# Altium integrated library ADXL345.IntLib: 3 symbols
Pins are listed as number, name and electrical type; pins without a type are passive.

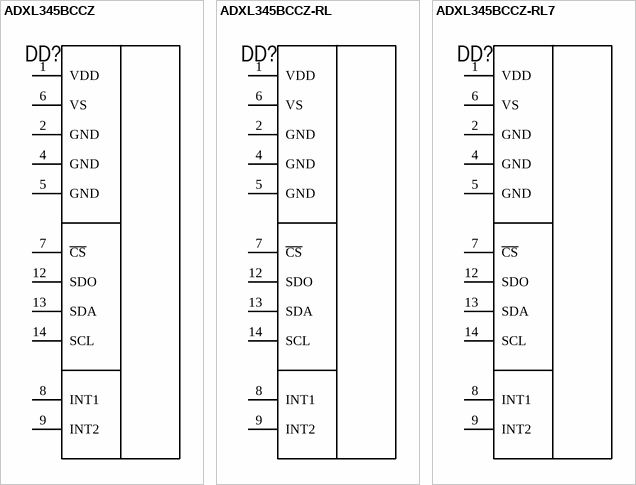
[diagram p0: symbols ADXL345BCCZ to ADXL345BCCZ-RL7]

## ADXL345BCCZ
designator DD?  (value not drawn)
3-Axis, ±2 g/±4 g/±8 g/±16 g Digital Accelerometer
footprint CC-14-1 (LGA, 14-Leads, Body 5.00x3.00 mm, IPC Medium Density)
pins: 1 VDD, 2 GND, 4 GND, 5 GND, 6 VS, 7 ~{CS}, 8 INT1, 9 INT2, 12 SDO, 13 SDA, 14 SCL

## ADXL345BCCZ-RL
designator DD?  (value not drawn)
3-Axis, ±2 g/±4 g/±8 g/±16 g Digital Accelerometer
footprint CC-14-1 (LGA, 14-Leads, Body 5.00x3.00 mm, IPC Medium Density)
pins: 1 VDD, 2 GND, 4 GND, 5 GND, 6 VS, 7 ~{CS}, 8 INT1, 9 INT2, 12 SDO, 13 SDA, 14 SCL

## ADXL345BCCZ-RL7
designator DD?  (value not drawn)
3-Axis, ±2 g/±4 g/±8 g/±16 g Digital Accelerometer
footprint CC-14-1 (LGA, 14-Leads, Body 5.00x3.00 mm, IPC Medium Density)
pins: 1 VDD, 2 GND, 4 GND, 5 GND, 6 VS, 7 ~{CS}, 8 INT1, 9 INT2, 12 SDO, 13 SDA, 14 SCL